# Altium footprint library MYRRA-44121.PcbLib: 1 footprints
Each footprint in its own frame and in the unit in brackets; x right, y up, seen from the top. Pads: shape width x height; smd on the part's side, far side on the other; paste and mask are expansions set on the pad; w line width, h text height; cw(c..) or ccw(c..) is an arc to the next point about the centre after c.
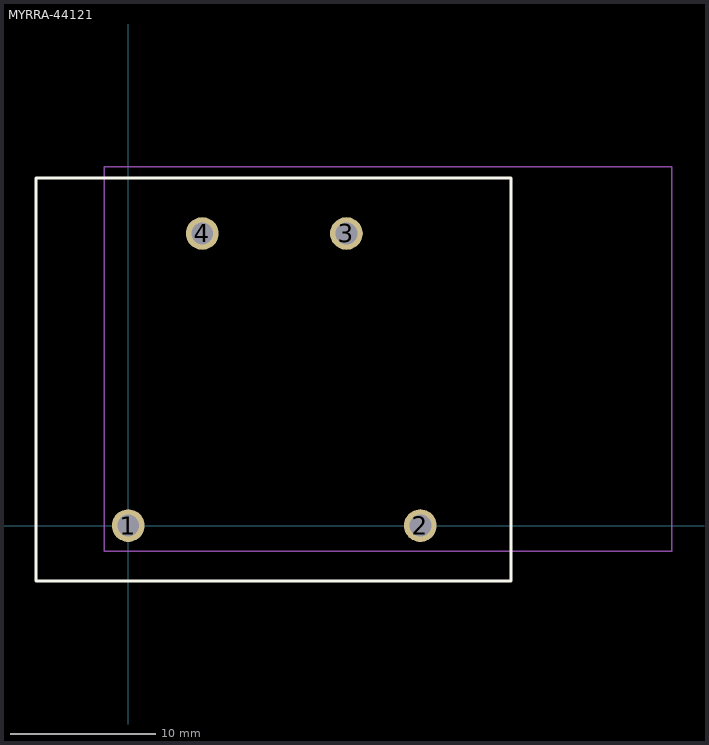
[diagram p0: the footprint, top view; thin cyan lines are the x and y axes]

## MYRRA-44121 [mm]
height 27
pads (4):
  round 2.25 hole 1.5: 1(0,0) 2(20.066,0) 3(14.986,20.066) 4(5.08,20.066)
Top Overlay:
  lines w0.2: -6.35,-3.81 -6.35,23.876 26.289,23.876 26.289,-3.81 -6.35,-3.81
Mechanical 15:
  lines w0.1: -6.35,-3.81 -6.35,23.876 26.289,23.876 26.289,-3.81 -6.35,-3.81
Mechanical 20:
  lines w0.1: -1.651,24.638 37.349,24.638 37.349,-1.762 ; -1.635,24.638 -1.635,-1.762 37.365,-1.762
3D body: height 23.5, standoff 0, extent -6.35,-3.81 26.289,23.876